# Altium schematic symbol library buck_sch_lib.SchLib: 7 symbols
Pins are listed as number, name and electrical type; pins without a type are passive.

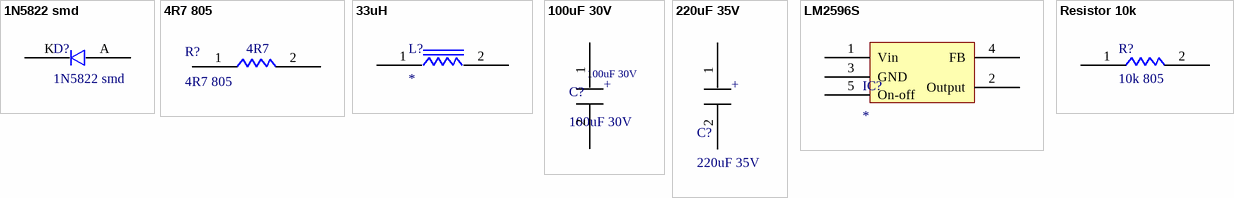
[diagram p0: symbols 1N5822 smd to Resistor 10k]

## 1N5822 smd
designator D?
footprint 1N5822
pins: A 4, K 1

## 4R7 805
designator R?
footprint 805Res
pins: 1, 2
text: 4R7

## 33uH
designator L?
footprint 33uH smd Inductor
pins: 1 8, 2 7

## 100uF 30V
designator C?
footprint 100uF through hole
pins: 1 5, 2 6
text: +

## 220uF 35V
designator C?
footprint 100uF through hole
pins: 1 5, 2 6
text: +

## LM2596S
designator IC?
footprint LM2596 (D2PAK)
pins: 1 Vin, 2 Output, 3 GND, 4 FB, 5 On-off

## Resistor 10k
designator R?, comment 10k 805
footprint 805Res
pins: 1, 2